# EAGLE library part MICROUSBOKAPHONE (library _MyComponents)
Micro USB connector Sold by: Okaphone
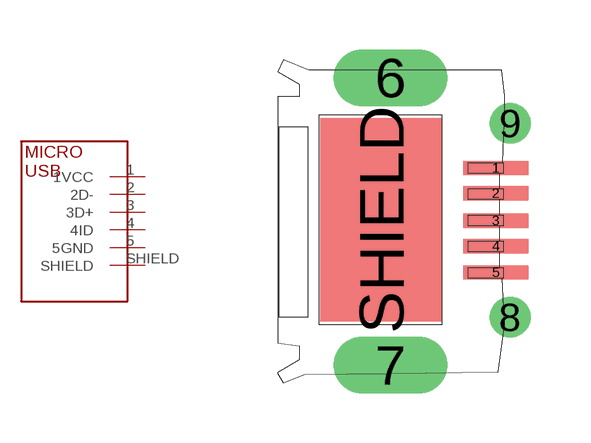
[diagram p7: symbol with the pads of MICROUSBOKAPHONE; footprint MICROUSBOKAPHONE]

Designator prefix -

## MICROUSBOKAPHONE  [MICROUSBOKAPHONE]
1  1VCC
2  2D-
3  3D+
4  4ID
5  5GND
SHIELD  SHIELD

## Footprint MICROUSBOKAPHONE (pad centres in mm)
Micro USB connector Sold by: Okaphone
smd 1.626 x 0.356: 1 2.54,1.27; 2 2.54,0.635; 3 2.54,-0.051; 4 2.54,-0.686; 5 2.54,-1.346
drill 0.254 pad 1.422 long: 6 -0.102,3.531; 7 -0.102,-3.658
drill 0.254 pad 1.016: 8 2.896,-2.464; 9 2.896,2.388
smd 3.048 x 5.08: SHIELD -0.33,-0.025